# EAGLE library part LTC2640 (library linear-technology-LTC2640)
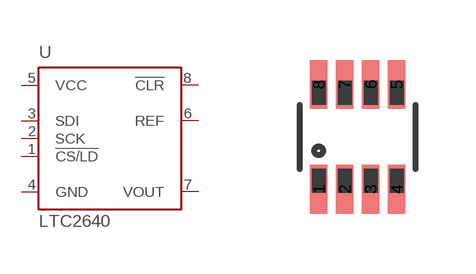
[diagram p0: symbol with the pads of TSOT23-8; footprint TSOT23-8]

Designator prefix -

## LTC2640  [TSOT23-8]
1  !CS/LD  in
2  SCK  in
3  SDI  in
4  GND  pwr
5  VCC  pwr
6  REF  pas
7  VOUT  out
8  !CLR  out

## Footprint TSOT23-8 (pad centres in mm)
smd 0.432 x 1.22: 1 -0.975,-1.31; 2 -0.325,-1.31; 3 0.325,-1.31; 4 0.975,-1.31; 5 0.975,1.31; 6 0.325,1.31; 7 -0.325,1.31; 8 -0.975,1.31